# Altium footprint library IoWLabsConnectors.PcbLib: 23 footprints (part 2 of 2)
Each footprint in its own frame and in the unit in brackets; x right, y up, seen from the top. Pads: shape width x height; smd on the part's side, far side on the other; paste and mask are expansions set on the pad; w line width, h text height; cw(c..) or ccw(c..) is an arc to the next point about the centre after c.
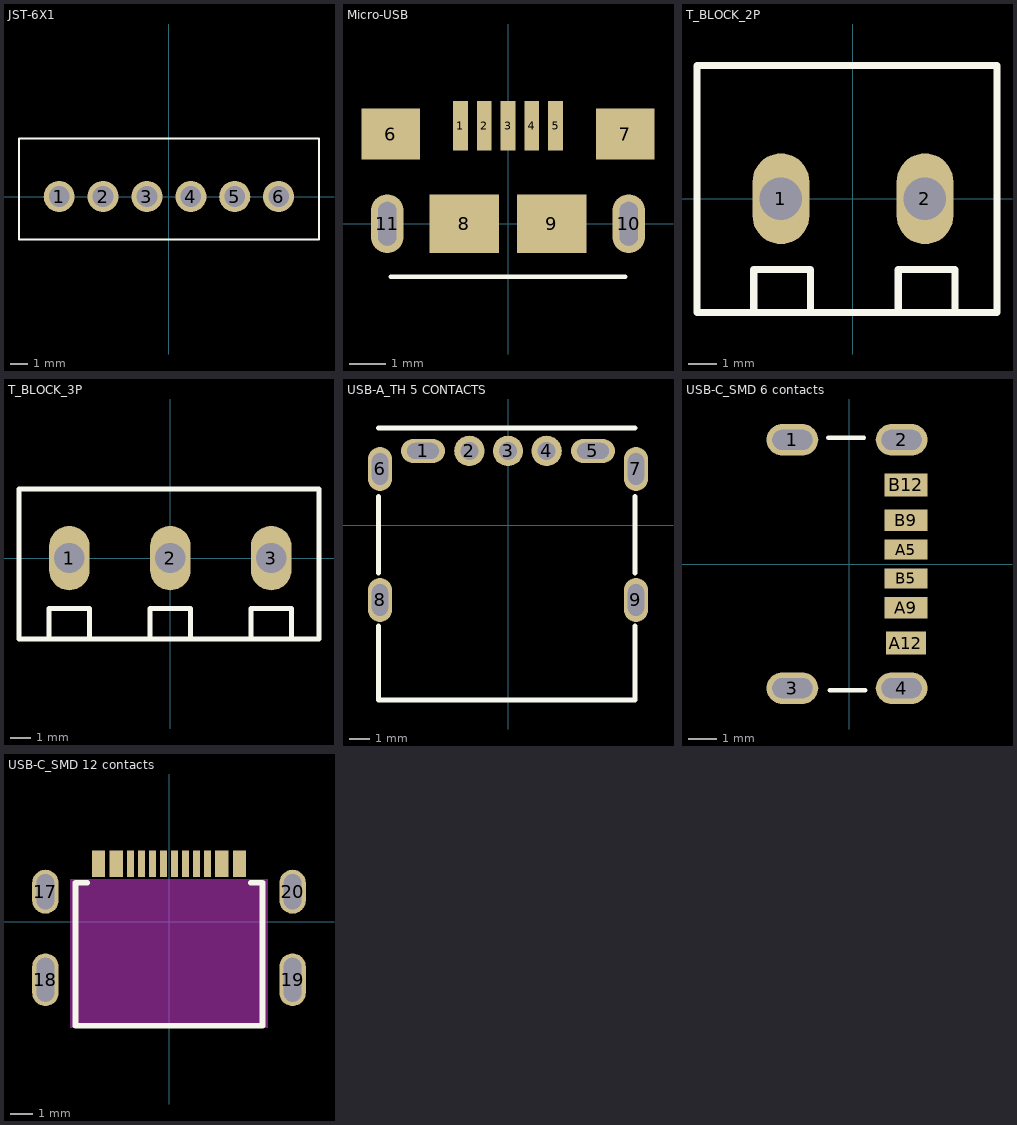
[diagram p1: the footprints below, top view; thin cyan lines are the x and y axes]

## JST-6X1 [mm] "JST- TH-6x1-P2.5-B3B-XH-AM-(LF)(SN)"
pads (6):
  round 1.8 hole 1.2: 1(-6.35,0) 2(-3.81,0) 3(-1.27,0) 4(1.27,0) 5(3.81,0) 6(6.35,0)
Top Overlay:
  lines w0.127: -8.675,-2.475 8.675,-2.475 8.687,-2.463 8.687,3.353 -8.663,3.353 -8.675,3.341 -8.675,-2.475
3D body "JST - XH - Thru (V) - 6Pin - 2.54mm.stp": height 7.21, standoff -3, extent -8.687,-2.489 8.687,3.353

## Micro-USB [mm] "Micro usb b type receptacle"
pads (11):
  rect 0.4x1.35 smd: 1(-1.3,2.675) 2(-0.65,2.675) 3(0,2.675) 4(0.65,2.675) 5(1.3,2.675)
  rect 1.6x1.4 smd: 6(-3.2,2.45) 7(3.2,2.45)
  rect 1.9x1.6 smd: 8(-1.2,0) 9(1.2,0)
  oval 0.9x1.6 hole 0.5 slot 1.2 at 90 deg: 10(3.3,0) 11(-3.3,0)
Top Overlay:
  lines w0.127: -3.2,-1.45 3.2,-1.45
3D body "micro-usb.STEP": height 2.8, standoff -0.8, extent -3.955,-2.845 3.905,2.865

## T_BLOCK_2P [mm] "PITCH 5.0, 3 POS"
pads (2):
  oval 2x3.2 hole 1.5: 1(-2.54,0) 2(2.54,0)
Top Overlay:
  lines w0.254: -3.5,-4 -3.5,-2.5 -1.5,-2.5 -1.5,-4 ; 1.6,-4 1.6,-2.5 3.6,-2.5 3.6,-4.013 ; -5.5,-4.013 -5.5,4.7 5.08,4.7 5.08,-4.013 -5.5,-4.013
3D body "tb_2p_screw_terminal_5pitch.stp": height 10, standoff -4.1, extent -5.6,-2.9 5,4.7

## T_BLOCK_3P [mm] "PITCH 5.0, 3 POS"
pads (3):
  oval 2x3.2 hole 1.5: 1(-5,0) 2(0,0) 3(5,0)
Top Overlay:
  lines w0.254: -6,-4 -6,-2.5 -4,-2.5 -4,-4 ; -1,-4 -1,-2.5 1,-2.5 1,-4.013 ; 4,-4 4,-2.5 6,-2.5 6,-4 ; -7.493,-4.013 7.366,-4.013 7.366,3.429 -7.493,3.429 -7.493,-4.013
3D body "3ScrewTerminal.STEP": height 11.5, standoff -3.6, extent -7.576,-4.02 7.424,3.48

## USB-A_TH 5 CONTACTS [mm]
pads (9):
  oval 2.2x1.2 hole 0.8 slot 1.6 at 0 deg mask+0.051: 1(-4.25,3.725) 5(4.25,3.725)
  round 1.524 hole 0.914: 2(-1.93,3.725) 3(0,3.725) 4(1.93,3.725)
  oval 1.2x2.2 hole 0.8 slot 1.6 at 90 deg mask+0.051: 6(-6.4,2.825) 7(6.4,2.825) 8(-6.4,-3.725) 9(6.4,-3.725)
Top Overlay:
  lines w0.254: -6.477,-5.038 -6.477,-8.721 6.35,-8.721 6.35,-5.038 ; -6.477,-2.371 -6.477,1.439 ; -6.477,4.868 6.35,4.868 ; 6.35,-2.371 6.35,1.439

## USB-C_SMD 6 contacts [mm]
pads (10):
  oval 1.8x1.1 hole 0.7 slot 1.401 at 0 deg: 1(-1.975,4.32) 2(1.825,4.32) 3(-1.975,-4.32) 4(1.825,-4.32)
  rect 1.5x0.7 smd: A5(1.975,0.5) B5(1.975,-0.5)
  rect 1.5x0.76 smd: A9(1.975,-1.52) B9(1.975,1.52)
  rect 1.4x0.8 smd: A12(1.975,-2.75)
  rect 1.5x0.8 smd: B12(1.975,2.75)
Top Overlay:
  lines w0.152: -0.725,4.4 0.515,4.4 ; -0.677,-4.4 0.563,-4.4

## USB-C_SMD 12 contacts [mm] "Sinkhead"
pads (20):
  oval 1.2x2 hole 0.8 slot 1.6 at 90 deg: 17(-5.62,1.362) 20(5.62,1.362)
  oval 1.2x2.4 hole 0.8 slot 2 at 90 deg: 18(-5.62,-2.638) 19(5.62,-2.638)
  rect 0.3x1.2 smd: A1(-3.35,2.638) A4(-2.55,2.638) A5(-1.25,2.638) A6(-0.25,2.638) A7(0.25,2.638) A8(1.25,2.638) A9(2.55,2.638) A12(3.35,2.638) B1(3.05,2.638) B4(2.25,2.638) B5(1.75,2.638) B6(0.75,2.638) B7(-0.75,2.638) B8(-1.75,2.638) B9(-2.25,2.638) B12(-3.05,2.638)
Top Overlay:
  lines w0.254: -3.709,1.763 -4.25,1.763 -4.25,-4.737 4.25,-4.737 4.25,1.763 3.708,1.763
Keep-Out Layer:
  board cut-out: -4.5,1.938 4.5,1.938 4.5,-4.812 -4.5,-4.812
3D body "USB-C_SMD.stp": height 1.58, standoff -1.58, extent -5.77,-4.812 5.77,2.738